# EAGLE library part RF-ENCODER (library act-global-nolan)
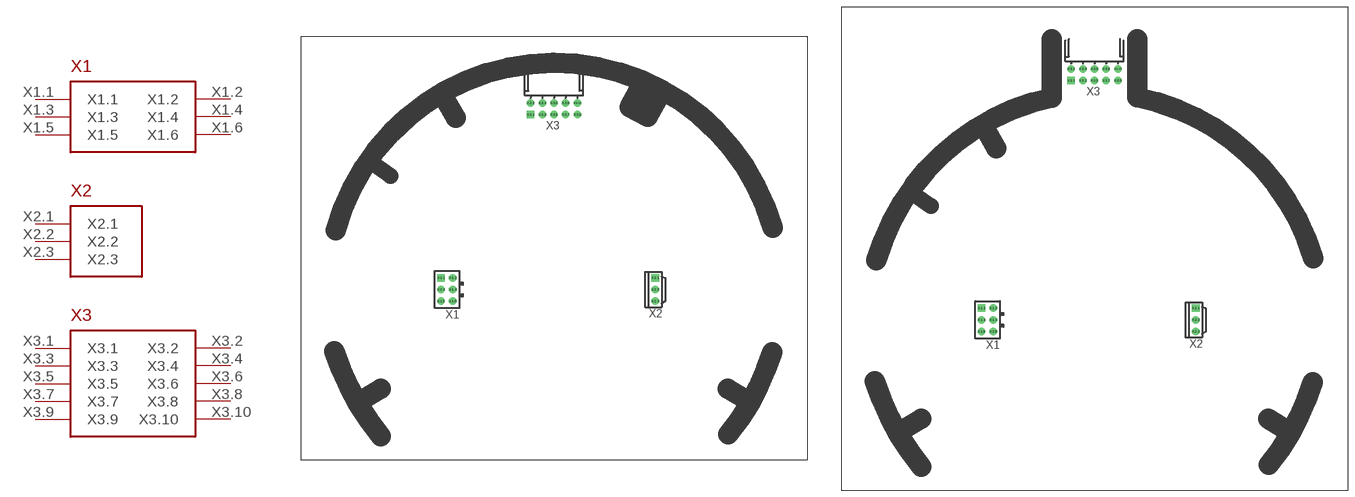
[diagram p19: symbol with the pads of RF14-24AUG; footprints RF14-24AUG, RF05]

Designator prefix -

## RF-ENCODERRF14  [RF14-24AUG]
X1.1  X1.1
X1.2  X1.2
X1.3  X1.3
X1.4  X1.4
X1.5  X1.5
X1.6  X1.6
X2.1  X2.1
X2.2  X2.2
X2.3  X2.3
X3.1  X3.1
X3.2  X3.2
X3.3  X3.3
X3.4  X3.4
X3.5  X3.5
X3.6  X3.6
X3.7  X3.7
X3.8  X3.8
X3.9  X3.9
X3.10  X3.10

## RF-ENCODERRF05  [RF05]
Pads as for RF14-24AUG

## Footprint RF14-24AUG (pad centres in mm)
drill 1.1 square: X1.1 -24.54,2.54; X2.1 22,2.54; X3.1 -5.08,38
drill 1.1: X1.2 -22,2.54; X1.3 -24.54,0; X1.4 -22,0; X1.5 -24.54,-2.54; X1.6 -22,-2.54; X2.2 22,0; X2.3 22,-2.54; X3.2 -5.08,40.54; X3.3 -2.54,38; X3.4 -2.54,40.54; X3.5 0,38; X3.6 0,40.54; X3.7 2.54,38; X3.8 2.54,40.54; X3.9 5.08,38; X3.10 5.08,40.54

## Footprint RF05 (pad centres in mm)
drill 1.1 square: X1.1 -24.54,2.54; X2.1 22,2.54; X3.1 -5.08,52
drill 1.1: X1.2 -22,2.54; X1.3 -24.54,0; X1.4 -22,0; X1.5 -24.54,-2.54; X1.6 -22,-2.54; X2.2 22,0; X2.3 22,-2.54; X3.2 -5.08,54.54; X3.3 -2.54,52; X3.4 -2.54,54.54; X3.5 0,52; X3.6 0,54.54; X3.7 2.54,52; X3.8 2.54,54.54; X3.9 5.08,52; X3.10 5.08,54.54